# Altium footprint library MOLEX 78800.PcbLib: 1 footprints
Each footprint in its own frame and in the unit in brackets; x right, y up, seen from the top. Pads: shape width x height; smd on the part's side, far side on the other; paste and mask are expansions set on the pad; w line width, h text height; cw(c..) or ccw(c..) is an arc to the next point about the centre after c.
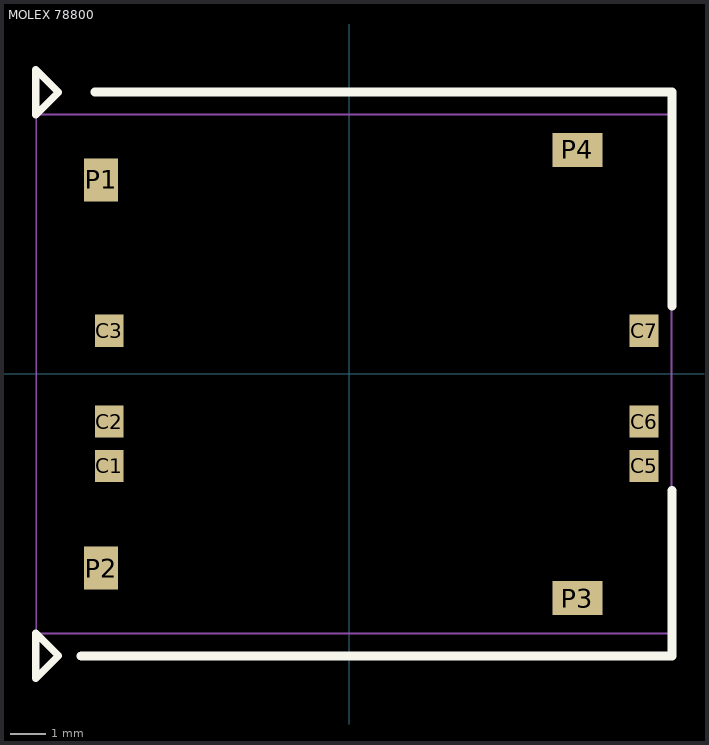
[diagram p0: the footprint, top view; thin cyan lines are the x and y axes]

## MOLEX 78800 [mm]
pads (10):
  rect 0.8x0.9 smd: C1(-6.71,-2.57) C2(-6.71,-1.33) C3(-6.71,1.21) C5(8.23,-2.57) C6(8.23,-1.33) C7(8.23,1.21)
  rect 0.95x1.2 smd: P1(-6.94,5.425) P2(-6.94,-5.425)
  rect 1.4x0.95 smd: P3(6.37,-6.26) P4(6.37,6.26)
Top Overlay:
  lines w0.203: -8.763,-8.382 -8.763,-7.239 ; -8.763,-7.239 -8.128,-7.874 -8.763,-8.509 -8.763,-7.239 ; -8.763,7.239 -8.763,8.509 -8.128,7.874 -8.763,7.239
  lines w0.254: -7.493,-7.874 9.017,-7.874 9.017,-3.25 ; -7.112,7.874 9.017,7.874 9.017,1.9
Mechanical 15:
  lines w0.05: -8.75,-7.25 -8.75,7.25 9,7.25 9,-7.25 -8.75,-7.25
3D body "788000001-1.x_t": height 1.5, standoff -0.01, extent -8.734,-6.925 8.226,6.925